# Altium footprint library Resistor.PcbLib: 27 footprints (part 1 of 2)
Each footprint in its own frame and in the unit in brackets; x right, y up, seen from the top. Pads: shape width x height; smd on the part's side, far side on the other; paste and mask are expansions set on the pad; w line width, h text height; cw(c..) or ccw(c..) is an arc to the next point about the centre after c.
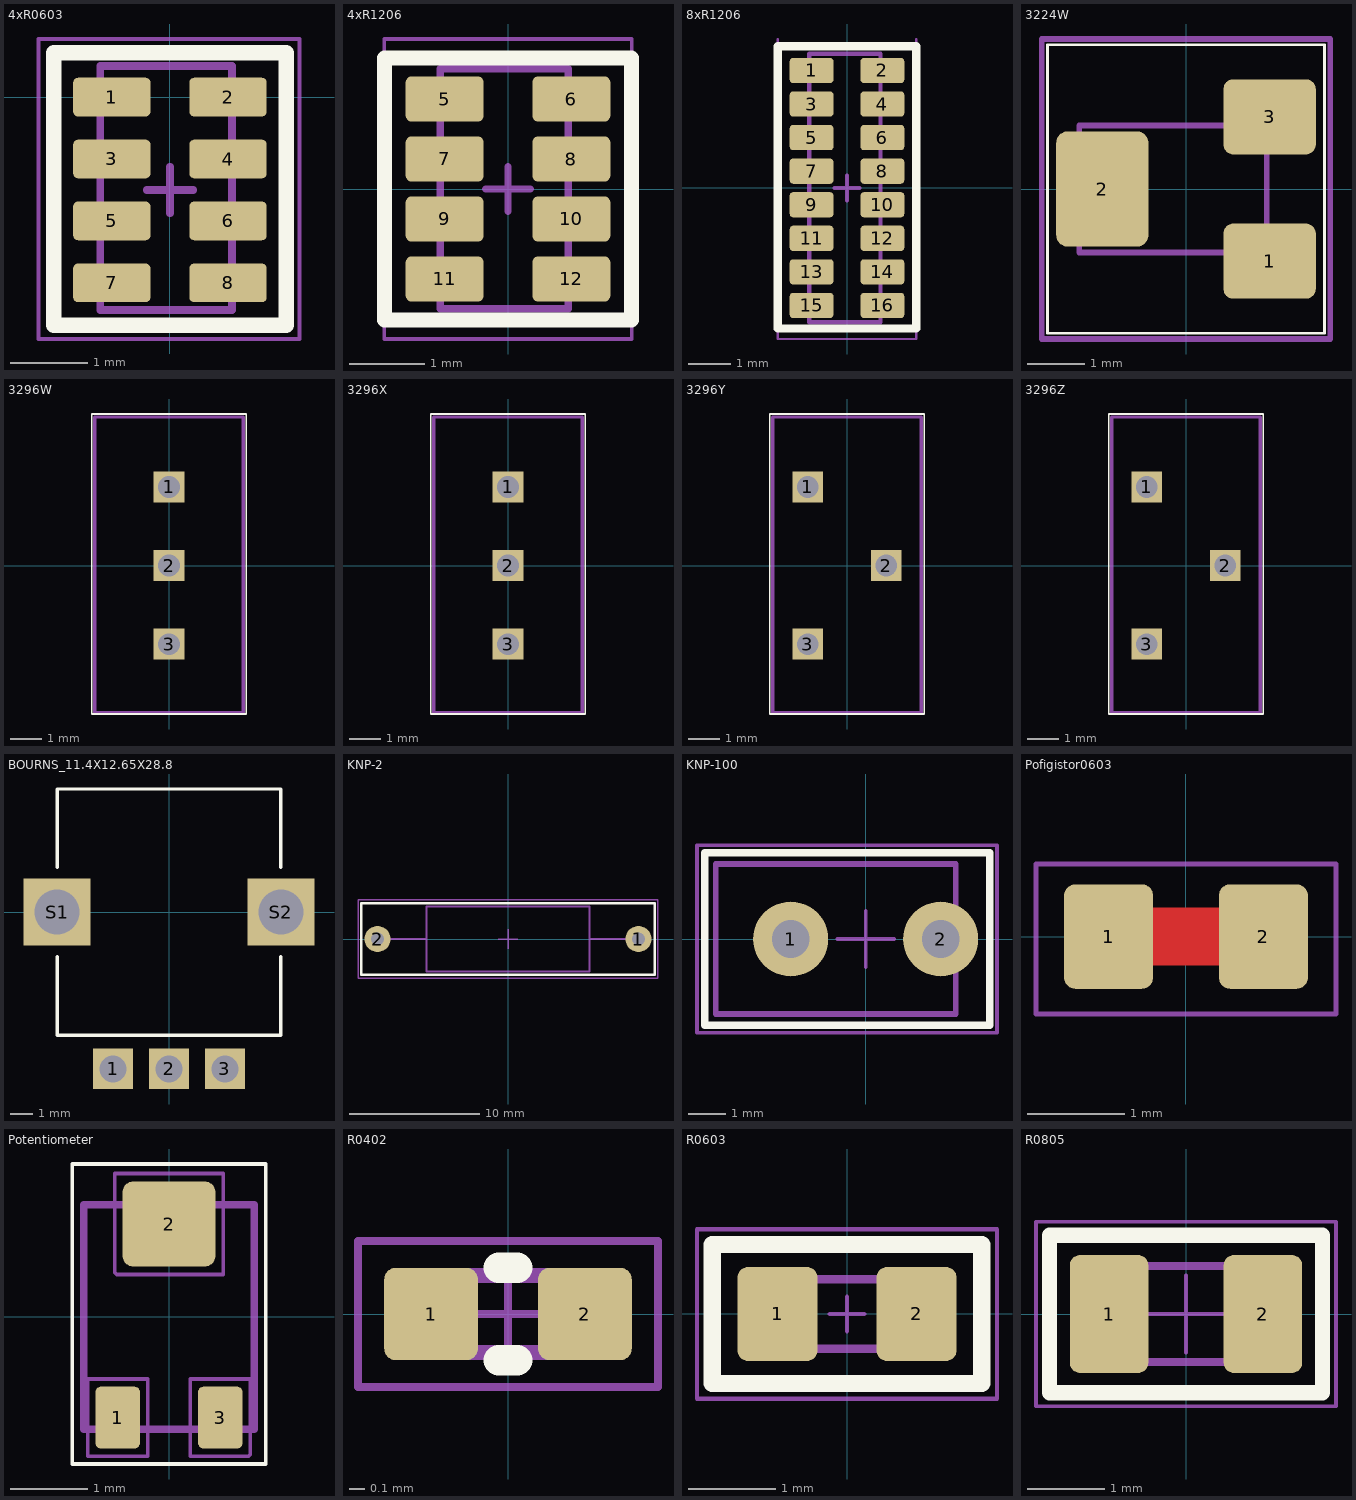
[diagram p0: the footprints below, top view; thin cyan lines are the x and y axes]

## 4xR0603 [mm]
height 0.45
pads (8):
  rrect25% 1x0.5 smd: 1(-0.75,0) 2(0.75,0) 3(-0.75,-0.8) 4(0.75,-0.8) 5(-0.75,-1.6) 6(0.75,-1.6) 7(-0.75,-2.4) 8(0.75,-2.4)
Top Overlay:
  lines w0.2: -1.5,-2.95 1.5,-2.95 1.5,0.575 -1.5,0.575 -1.5,-2.95
Mechanical 9:
  text ".Designator" at -3.525,1.025 h1
  text ".Comment" at -3.525,0.425 h0.8
Mechanical 11:
  lines w0.1: -0.9,-2.75 0.8,-2.75 0.8,0.4 -0.9,0.4 -0.9,-2.75
Mechanical 15:
  lines w0.05: -1.7,-3.125 -1.7,0.75 1.675,0.75 1.675,-3.125 -1.7,-3.125
  lines w0.1: -0.3,-1.2 0.3,-1.2 ; 0,-1.5 0,-0.9
3D body "User Library-Array-1206-4Way-Var1.STEP": height 0.5, standoff 0, extent -0.8,-2.8 0.8,0.4

## 4xR1206 [mm]
pads (8):
  rrect25% 1.04x0.6 smd paste-5: 5(-0.845,1.2) 6(0.845,1.2) 7(-0.845,0.4) 8(0.845,0.4) 9(-0.845,-0.4) 10(0.845,-0.4) 11(-0.845,-1.2) 12(0.845,-1.2)
Top Overlay:
  lines w0.2: -1.65,-1.75 1.65,-1.75 1.65,1.75 -1.65,1.75 -1.65,-1.75
Top Paste:
  drawing of 8 lines, arcs and shapes, not listed
Mechanical 11:
  lines w0.1: -0.9,-1.6 0.8,-1.6 0.8,1.6 -0.9,1.6 -0.9,-1.6
Mechanical 15:
  lines w0.05: -1.65,-2 1.65,-2 1.65,1.725 1.65,2 -1.65,2 -1.65,1.7 -1.65,-2
  lines w0.1: -0.3,0 0.3,0 ; 0,-0.3 0,0.3
3D body "User Library-User Library-TC164.STEP": height 0.55, standoff 0, extent -0.8,-1.6 0.8,1.6

## 8xR1206 [mm]
height 0.45
pads (16):
  rrect25% 1.04x0.6 smd paste-5: 1(-0.845,2.8) 2(0.845,2.8) 3(-0.845,2) 4(0.845,2) 5(-0.845,1.2) 6(0.845,1.2) 7(-0.845,0.4) 8(0.845,0.4) 9(-0.845,-0.4) 10(0.845,-0.4) 11(-0.845,-1.2) 12(0.845,-1.2) 13(-0.845,-2) 14(0.845,-2) 15(-0.845,-2.8) 16(0.845,-2.8)
Top Overlay:
  lines w0.2: -1.65,-3.35 1.65,-3.35 1.65,3.375 -1.65,3.375 -1.65,-3.35
Top Paste:
  drawing of 16 lines, arcs and shapes, not listed
Mechanical 11:
  lines w0.1: -0.9,-3.2 0.8,-3.2 0.8,3.2 -0.9,3.2 -0.9,-3.2
Mechanical 15:
  lines w0.05: -1.65,3.375 1.65,3.375 ; -1.65,3.55 -1.65,1.7 -1.65,-3.6 1.65,-3.6 1.65,1.725 1.65,3.55
  lines w0.1: -0.3,0 0.3,0 ; 0,-0.3 0,0.3
3D body "User Library-742C163.step": height 0.53, standoff -0.03, extent -0.8,-3.2 0.8,3.2

## 3224W [mm]
height 1.12
pads (3):
  rrect25% 1.6x1.3 smd: 1(1.45,-1.25) 3(1.45,1.25)
  rrect25% 1.6x2 smd: 2(-1.45,0)
Top Overlay:
  lines w0.05: -2.4,-2.5 2.4,-2.5 2.4,2.5 -2.4,2.5 -2.4,-2.5
Mechanical 9:
  text ".Comment" at 11.049,-3.175 h0.8
  text ".Designator" at 10.287,-3.937 h1
Mechanical 11:
  lines w0.1: -1.85,-1.1 1.4,-1.1 1.4,1.1 -1.85,1.1 -1.85,-1.1
Mechanical 15:
  lines w0.1: -2.5,-2.6 -2.5,2.6 2.5,2.6 2.5,-2.6 -2.5,-2.6
3D body "User Library-Bourns 3224W multiturn potentiometer x1.step": height 5.3, standoff 0, extent -2.025,-2.4 1.875,2.4

## 3296W [mm]
height 1.12
pads (3):
  rect 1x1 hole 0.7: 1(0,2.54) 2(0,0) 3(0,-2.54)
Top Overlay:
  lines w0.05: -2.5,-4.8 2.5,-4.8 2.5,4.9 -2.5,4.9 -2.5,-4.8
Mechanical 9:
  text ".Designator" at 10.287,-3.937 h1
  text ".Comment" at 11.049,-3.175 h0.8
Mechanical 15:
  lines w0.1: -2.4,-4.75 -2.4,4.8 2.4,4.8 2.4,-4.75 -2.4,-4.75
3D body "3296w-1-202.stp": height 11.8, standoff -2.76, extent -2.455,-4.726 2.371,4.825

## 3296X [mm]
height 1.12
pads (3):
  rect 1x1 hole 0.7: 1(0,2.54) 2(0,0) 3(0,-2.54)
Top Overlay:
  lines w0.05: -2.5,-4.8 -2.5,4.9 2.5,4.9 2.5,-4.8 -2.5,-4.8
Mechanical 9:
  text ".Comment" at 11.049,-3.175 h0.8
  text ".Designator" at 10.287,-3.937 h1
Mechanical 15:
  lines w0.1: -2.4,-4.75 2.4,-4.75 2.4,4.8 -2.4,4.8 -2.4,-4.75
3D body "3296x_250k.stp": height 10.28, standoff -2.76, extent -2.426,-6.274 2.4,4.8

## 3296Y [mm]
height 1.12
pads (3):
  rect 1x1 hole 0.7: 1(-1.27,2.54) 2(1.27,0) 3(-1.27,-2.54)
Top Overlay:
  lines w0.05: -2.5,-4.8 -2.5,4.9 2.5,4.9 2.5,-4.8 -2.5,-4.8
Mechanical 9:
  text ".Comment" at 11.049,-3.175 h0.8
  text ".Designator" at 10.287,-3.937 h1
Mechanical 15:
  lines w0.1: -2.4,-4.75 2.4,-4.75 2.4,4.8 -2.4,4.8 -2.4,-4.75
3D body "24017.stp": height 11.52, standoff -6.43, extent -2.426,-4.762 2.4,4.762

## 3296Z [mm]
height 1.12
pads (3):
  rect 1x1 hole 0.7: 1(-1.27,2.54) 2(1.27,0) 3(-1.27,-2.54)
Top Overlay:
  lines w0.05: -2.5,-4.8 -2.5,4.9 2.5,4.9 2.5,-4.8 -2.5,-4.8
Mechanical 9:
  text ".Comment" at 11.049,-3.175 h0.8
  text ".Designator" at 10.287,-3.937 h1
Mechanical 15:
  lines w0.1: -2.4,-4.75 2.4,-4.75 2.4,4.8 -2.4,4.8 -2.4,-4.75
3D body "67546.stp": height 10, standoff -6.43, extent -2.4,-6.245 2.426,4.804

## BOURNS_11.4X12.65X28.8 [mm]
height 1.12
pads (5):
  rect 1.8x1.8 hole 1.2: 1(-2.5,-7) 2(0,-7) 3(2.5,-7)
  rect 3x3 hole 2: S1(-5,0) S2(5,0)
Top Overlay:
  lines w0.152: -5,-2 -5,-5.5 0,-5.5 5,-5.5 5,-2 ; -5,2 -5,5.5 5,5.5 5,2
3D body "User Library-PEC11-4025F-N0024.STEP": height 32.5, standoff -3.29, extent -6.526,-7.145 6.526,6.85

## KNP-2 [mm]
pads (2):
  round 2 hole 1: 1(10,0)
  round 2 hole 1 mask+0.102: 2(-10,0)
Top Overlay:
  lines w0.2: -11.25,-2.75 -11.25,2.75 11.25,2.75 11.25,-2.75 -11.25,-2.75
Mechanical 11:
  lines w0.15: -10,0 -6.25,0 ; 6.25,0 10,0 ; -6.25,-2.5 6.25,-2.5 6.25,2.5 -6.25,2.5 -6.25,-2.5
Mechanical 15:
  lines w0.1: -0.75,0 0.75,0 ; 0,-0.75 0,0.75 ; -11.5,-3 -11.5,2.75 -11.5,3 11.5,3 11.5,-3 -11.5,-3
3D body "User Library-knp200_hor20mm_470R_5.STEP": height 6.5, standoff -6, extent -10.4,-2.5 10.4,2.5

## KNP-100 [mm]
pads (2):
  round 2 hole 1 mask+0.102: 1(-2,0)
  round 2 hole 1: 2(2,0)
Top Overlay:
  lines w0.2: -4.3,-2.3 3.3,-2.3 3.3,2.3 -4.3,2.3 -4.3,-2.3
Mechanical 7:
  lines w0.15: -4,-2 -4,2 2.4,2 2.4,-2 -4,-2
Mechanical 15:
  lines w0.1: -0.75,0 0.75,0 ; 0,-0.75 0,0.75 ; -4.5,-2.5 3.5,-2.5 3.5,2.5 -4.5,2.5 -4.5,-2.5
3D body "User Library-Resistor KNP-100.step": height 16.4, standoff -3, extent -4.01,-2.01 2.4,2.01

## Pofigistor0603 [mm]
pads (2):
  rrect25% 0.92x1.08 smd paste+0: 1(-0.8,0)
  rrect25% 0.92x1.08 smd: 2(0.8,0)
Top Layer:
  rectangle: -0.8,-0.3 0.8,0.3
Mechanical 11:
  lines w0.1: -0.9,-0.4 -0.9,0.4 ; 0.8,-0.4 0.8,0.4
Mechanical 15:
  lines w0.05: -1.55,-0.8 -1.55,0.75 1.55,0.75 1.55,-0.8 -1.55,-0.8

## Potentiometer [mm]
height 1.12
pads (3):
  rrect25% 0.575x0.8 smd: 1(-0.663,-1.3) 3(0.663,-1.3)
  rrect25% 1.2x1.1 smd: 2(0,1.2)
Top Overlay:
  lines w0.05: -1.25,-1.9 -1.25,1.975 1.25,1.975 1.25,-1.9 -1.25,-1.9
Mechanical 7:
  lines w0.05: -1.05,-1.8 -0.275,-1.8 -0.275,-0.8 -1.05,-0.8 -1.05,-1.8 ; -0.7,0.575 -0.675,0.55 0.7,0.55 0.7,1.85 -0.7,1.85 -0.7,1.45 -0.7,0.575 ; 0.275,-1.8 1.025,-1.8 1.05,-1.775 1.05,-0.8 0.275,-0.8 0.275,-1.8
Mechanical 9:
  text ".Comment" at 11.049,-3.175 h0.8
  text ".Designator" at 10.287,-3.937 h1
Mechanical 15:
  lines w0.1: -1.1,-1.45 1.1,-1.45 1.1,1.45 -1.1,1.45 -1.1,-1.45
3D body "User Library-3302X-3-103.step": height 1.1, standoff 0, extent -1.1,-1.449 1.1,1.45

## R0402 [mm] "0.039\" L x 0.020\" W (1.00mm x 0.50mm)"
height 0.4
pads (2):
  rrect25% 0.61x0.6 smd: 1(-0.5,0) 2(0.5,0)
Top Overlay:
  lines w0.2: -0.058,-0.3 0.058,-0.3 ; -0.058,0.3 0.058,0.3
Mechanical 13:
  lines w0.1: -0.5,-0.25 0.5,-0.25 0.5,0.25 -0.5,0.25 -0.5,-0.25
Mechanical 15:
  lines w0.05: -0.3,0 0.3,0 ; 0,-0.3 0,0.3 ; -0.975,-0.475 -0.975,0.475 0.975,0.475 0.975,-0.475 -0.975,-0.475
3D body "User Library-R_0402.step": height 0.35, standoff 0, extent -0.5,-0.25 0.5,0.25

## R0603 [mm]
height 0.45
pads (2):
  rrect25% 0.92x1.08 smd: 1(-0.8,0) 2(0.8,0)
Top Overlay:
  lines w0.2: -1.55,-0.796 -1.55,0.796 ; -1.538,-0.8 1.538,-0.8 ; -1.538,0.8 1.538,0.8 ; 1.55,-0.796 1.55,0.796
Mechanical 13:
  lines w0.1: -0.8,-0.4 -0.8,0.4 0.8,0.4 0.8,-0.4 -0.8,-0.4
Mechanical 15:
  lines w0.05: -1.726,0.974 -1.726,-0.975 1.714,-0.975 ; -1.726,0.975 1.725,0.975 1.726,0.974 1.726,-0.975 ; -0.2,0 0.2,0 ; 0,-0.2 0,0.2 0,-0.2
3D body "RESC1608.STEP": height 0.5, standoff 0, extent -0.8,-0.4 0.8,0.4

## R0805 [mm] "Chip Resistor, 2-Leads, Body 2,10x1,30mm, IPC Medium Density"
height 0.55
pads (2):
  rrect25% 1.02x1.53 smd paste-5: 1(-1,0) 2(1,0)
Top Overlay:
  lines w0.2: -1.775,-1.025 -1.775,1.025 1.775,1.025 1.775,-1.025 -1.775,-1.025
Top Paste:
  region: -0.498,-0.64 -0.8,0 -0.498,0.64 -0.498,0.665 -0.517,0.711 -0.552,0.746 -0.598,0.765 -0.622,0.765 -1.393,0.765 -1.417,0.765 -1.463,0.746 -1.499,0.711 -1.518,0.665 -1.518,0.64 -1.517,-0.64 -1.517,-0.665 -1.498,-0.711 -1.463,-0.746 -1.417,-0.765 -1.392,-0.765 -0.623,-0.765 -0.598,-0.765 -0.552,-0.746 -0.517,-0.711 -0.498,-0.665
  region: 0.498,-0.64 0.8,0 0.498,0.64 0.498,0.665 0.517,0.711 0.552,0.746 0.598,0.765 0.622,0.765 1.393,0.765 1.417,0.765 1.463,0.746 1.499,0.711 1.518,0.665 1.518,0.64 1.517,-0.64 1.517,-0.665 1.498,-0.711 1.463,-0.746 1.417,-0.765 1.392,-0.765 0.623,-0.765 0.598,-0.765 0.552,-0.746 0.517,-0.711 0.498,-0.665
Mechanical 13:
  lines w0.1: -1,-0.625 1,-0.625 1,0.625 -1,0.625 -1,-0.625
Mechanical 15:
  lines w0.05: -0.5,0 0.5,0 ; 0,-0.5 0,0.5 ; -1.95,-1.2 1.95,-1.2 1.95,1.2 -1.95,1.2 -1.95,-1.2
3D body "RC0805FR-07270RL.STEP": height 0.6, standoff 0, extent -1,-0.625 1,0.625